# EAGLE library part PCM2706 (library JKW_CHIP)
Texas Instruments' Audio Dac.
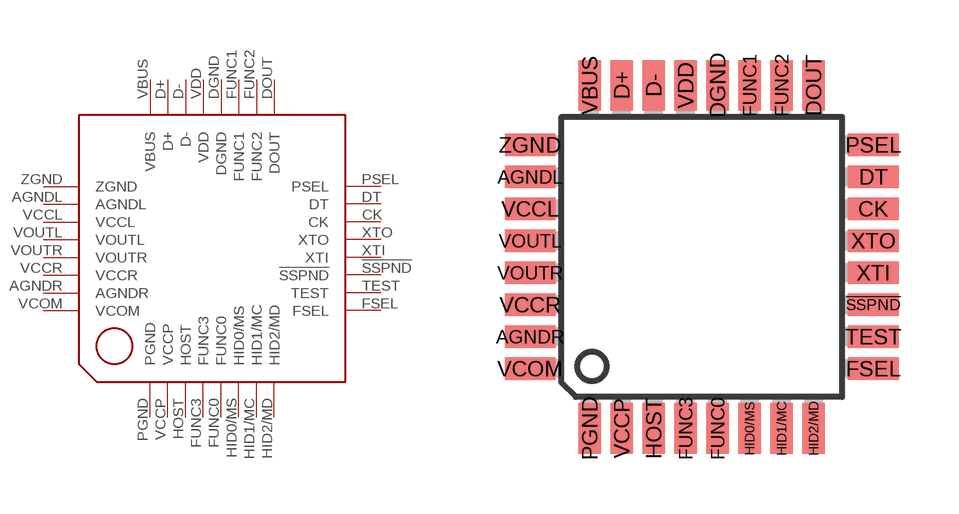
[diagram p6: symbol with the pads of TQFP32-08; footprint TQFP32-08]

Designator prefix -

## PCM2706  [TQFP32-08]
!SSPND  !SSPND
AGNDL  AGNDL  pwr
AGNDR  AGNDR  pwr
CK  CK
D+  D+
D-  D-
DGND  DGND  pwr
DOUT  DOUT
DT  DT
FSEL  FSEL
FUNC0  FUNC0
FUNC1  FUNC1
FUNC2  FUNC2
FUNC3  FUNC3
HID0/MS  HID0/MS
HID1/MC  HID1/MC
HID2/MD  HID2/MD
HOST  HOST  pwr
PGND  PGND  pwr
PSEL  PSEL
TEST  TEST
VBUS  VBUS  pwr
VCCL  VCCL  pwr
VCCP  VCCP  pwr
VCCR  VCCR  pwr
VCOM  VCOM  pwr
VDD  VDD  pwr
VOUTL  VOUTL  out
VOUTR  VOUTR  out
XTI  XTI
XTO  XTO
ZGND  ZGND  pwr

## Footprint TQFP32-08 (pad centres in mm)
Thin Plasic Quad Flat Package Grid 0.8 mm
smd 1.27 x 0.559: !SSPND 4.293,-1.2; AGNDL -4.293,2; AGNDR -4.293,-2; CK 4.293,1.2; DT 4.293,2; FSEL 4.293,-2.8; PSEL 4.293,2.8; TEST 4.293,-2; VCCL -4.293,1.2; VCCR -4.293,-1.2; VCOM -4.293,-2.8; VOUTL -4.293,0.4; VOUTR -4.293,-0.4; XTI 4.293,-0.4; XTO 4.293,0.4; ZGND -4.293,2.8
smd 0.559 x 1.27: D+ -2,4.293; D- -1.2,4.293; DGND 0.4,4.293; DOUT 2.8,4.293; FUNC0 0.4,-4.293; FUNC1 1.2,4.293; FUNC2 2,4.293; FUNC3 -0.4,-4.293; HID0/MS 1.2,-4.293; HID1/MC 2,-4.293; HID2/MD 2.8,-4.293; HOST -1.2,-4.293; PGND -2.8,-4.293; VBUS -2.8,4.293; VCCP -2,-4.293; VDD -0.4,4.293